# Altium schematic symbol library 6QChan_vitalcore_backpack.SCHLIB: 14 symbols
Pins are listed as number, name and electrical type; pins without a type are passive.

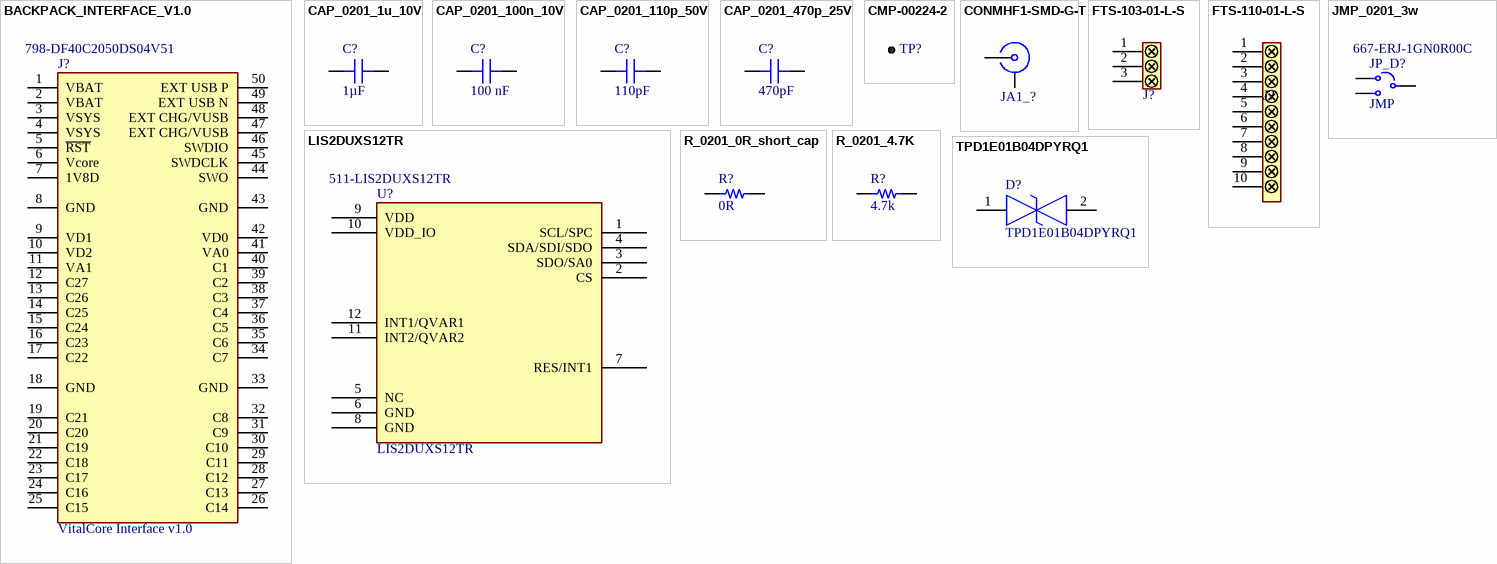
[diagram p0: symbols BACKPACK_INTERFACE_V1.0 to TPD1E01B04DPYRQ1]

## BACKPACK_INTERFACE_V1.0
designator J?, comment VitalCore Interface v1.0  Supplier Part Number 1: 798-DF40C2050DS04V51
Manufacturer: Hirose; Manufacturer Part Number: DF40C(2.0)-50DS-0.4V(51); Manufacturer Series: DF40; Connector Type: BOARD STACKING CONNECTOR; Body/Shell Style: RECEPTACLE; Contact Pattern: RECTANGULAR; Contact Resistance: 90mR; Dielectric Withstanding Voltage (AC): 100V; Durability: 30Cycles; Insulation Resistance: 50MR; Number Of Connectors: 1; Number Of PCB Rows: 2; Polarization Key: POLARIZED HOUSING; Rated Current (Signal): 300mA; Number of Contacts: 50; Mating Contact Pitch: 0.016inch; Mounting Option 1: LOCKING; PCB Contact Row Spacing: 2.6416mm; Reference Standard: UL; Reliability: COMMERCIAL; Supplier 1: Mouser; RoHS: Yes; Category: Connectors; Stock 1: 16932; Pricing 1: 1=1.44, 10=1.14, 50=1.14, 100=0.99, 1000=0.792, 10000=0.643 (USD); Mounting Technology: Board; Contact Material: Bronze; Contact Finish - Mating: AU; Insulation Color: Black; Insulation Material: Polymer; Min Operating Temperature: -35°C; Max Operating Temperature: 85°C; Contact Gender: Female; Mounting Style: STRAIGHT; Number of Rows Loaded: 2; PCB Contact Pattern: RECTANGULAR; Termination: SMD/SMT; Terminal Pitch: 4.064mm; RoHS Compliant: Yes; ComponentLink1URL: https://datasheet.ciiva.com:443/pdfs/VipMasterIC/IC/HIRO/HIRO-S-A0003089604/HIRO-S-A0007946763-1.pdf?src-supplier=IHS+Markit; ComponentLink1Description: https://datasheet.ciiva.com:443/pdfs/VipMasterIC/IC/HIRO/HIRO-S-A0003089604/HIRO-S-A0007946763-1.pdf?src-supplier=IHS+Markit; ComponentLink2URL: https://www.hirose.com/product/download/?distributor=digikey&amp;type=specSheet&amp;lang=en&amp;num=DF40C(2.0)-50DS-0.4V(51)&src-supplier=Digi-Key; ComponentLink2Description: https://www.hirose.com/product/download/?distributor=digikey&amp;type=specSheet&amp;lang=en&amp;num=DF40C(2.0)-50DS-0.4V(51)&src-supplier=Digi-Key; ComponentLink3URL: https://www.hirose.com/product/en/download_file/key_name/DF40C%282.0%29-50DS-0.4V%2851%29/category/Specification%20Sheet/doc_file_id/46910/?file_category_id=9&item_id=06844091051&is_series=&src-supplier=Digi-Key; ComponentLink3Description: https://www.hirose.com/product/en/download_file/key_name/DF40C%282.0%29-50DS-0.4V%2851%29/category/Specification%20Sheet/doc_file_id/46910/?file_category_id=9&item_id=06844091051&is_series=&src-supplier=Digi-Key; ComponentLink4URL: http://www.hirose.co.jp/cataloge_hp/e68440018.pdf?src-supplier=Mouser; ComponentLink4Description: http://www.hirose.co.jp/cataloge_hp/e68440018.pdf?src-supplier=Mouser
footprint BACKPACK_INTERFACE_V1.0_1.5mm
footprint BACKPACK_INTERFACE_V1.0_2mm
pins: 1 VBAT, 2 VBAT, 3 VSYS, 4 VSYS, 5 ~{RST}, 6 Vcore, 7 1V8D, 8 GND, 9 VD1, 10 VD2, 11 VA1, 12 C27, 13 C26, 14 C25, 15 C24, 16 C23, 17 C22, 18 GND, 19 C21, 20 C20, 21 C19, 22 C18, 23 C17, 24 C16, 25 C15, 26 C14, 27 C13, 28 C12, 29 C11, 30 C10, 31 C9, 32 C8, 33 GND, 34 C7, 35 C6, 36 C5, 37 C4, 38 C3, 39 C2, 40 C1, 41 VA0, 42 VD0, 43 GND, 44 SWO, 45 SWDCLK, 46 SWDIO, 47 EXT CHG/VUSB, 48 EXT CHG/VUSB, 49 EXT USB N, 50 EXT USB P

## CAP_0201_1u_10V
designator C?, comment 1µF
CAP CER 1UF 10V X6S; Manufacturer: Murata; Manufacturer Part Number: GRM033C81A105ME05D; Dielectric Material: Ceramic; Multilayer: Yes; Tolerance  (fill in as +-): 20%; Supplier 1: Mouser; RoHS: Yes; Category: Ceramic Capacitors; Stock 1: 212716; Pricing 1: 1=0.3, 10=0.147, 50=0.147, 100=0.095, 1000=0.079, 10000=0.066 (USD); Mounting Technology: Surface Mount; Pins: 2; Package Shape: Rectangular; Case/Package: 0201; Terminal Finish: Nickel; Min Operating Temperature: -55°C; Max Operating Temperature: 105°C; JESD-609 Code: e3; Value: 1uF; Capacitor Type: Ceramic; Packaging: Tape and Reel; Tolerance (fill in as +-): 20%; Rated DC Voltage (URdc): 10V; Temperature Characteristics Code: X6S; Termination: Wraparound; Reach SVHC Compliant: Yes; RoHS Compliant: Yes; ComponentLink1URL: https://psearch.en.murata.com:443/capacitor/product/GRM033C81A105ME05%23.pdf?src-supplier=IHS+Markit; ComponentLink1Description: https://psearch.en.murata.com:443/capacitor/product/GRM033C81A105ME05%23.pdf?src-supplier=IHS+Markit; ComponentLink2URL: http://search.murata.co.jp/Ceramy/image/img/A01X/G101/ENG/GRM033C81A105ME05-01.pdf?src-supplier=Digi-Key; ComponentLink2Description: http://search.murata.co.jp/Ceramy/image/img/A01X/G101/ENG/GRM033C81A105ME05-01.pdf?src-supplier=Digi-Key; ComponentLink3URL: https://datasheet.octopart.com/GRM033C81A105ME05D-Murata-datasheet-86813717.pdf?src-supplier=Future+Electronics; ComponentLink3Description: https://datasheet.octopart.com/GRM033C81A105ME05D-Murata-datasheet-86813717.pdf?src-supplier=Future+Electronics; ComponentLink4URL: https://datasheet.octopart.com/GRM033C81A105ME05D-Murata-datasheet-165579666.pdf?src-supplier=TME; ComponentLink4Description: https://datasheet.octopart.com/GRM033C81A105ME05D-Murata-datasheet-165579666.pdf?src-supplier=TME; Supplier Part Number 1: 81-GRM033C81A105ME5D
footprint CAP_0201
pins: 1, 2

## CAP_0201_100n_10V
designator C?, comment 100 nF
CAP CER 0.1UF 25V X5R 0201; Manufacturer: Murata; Manufacturer Part Number: GRM033R6YA104ME14D; Dielectric Material: Ceramic; Value: 100nF; Multilayer: Yes; Tolerance  (fill in as +-): 20%; Rated DC Voltage (URdc): 35V; Supplier 1: Mouser; RoHS: Yes; Category: Ceramic Capacitors; Stock 1: 286132; Pricing 1: 1=0.1, 10=0.013, 50=0.013, 100=0.008, 1000=0.006, 10000=0.005 (USD); Mounting Technology: Surface Mount; Pins: 2; Package Shape: Rectangular; Case/Package: 0201; Terminal Finish: Nickel; Min Operating Temperature: -55°C; Max Operating Temperature: 85°C; JESD-609 Code: e3; Capacitor Type: Ceramic; Package Style: SMTMeter; Packaging: Tape and Reel; Tolerance (fill in as +-): 20%; Temperature Characteristics Code: X5R; Termination: Wraparound; Length: 0.6mm; Width: 0.3mm; Height: 0.3mm; Reach SVHC Compliant: Yes; RoHS Compliant: Yes; ComponentLink1URL: https://psearch.en.murata.com:443/capacitor/product/GRM033R6YA104ME14%23.pdf?src-supplier=IHS+Markit; ComponentLink1Description: https://psearch.en.murata.com:443/capacitor/product/GRM033R6YA104ME14%23.pdf?src-supplier=IHS+Markit; ComponentLink2URL: http://www.mouser.com/ds/2/281/c02e-2905.pdf?src-supplier=Mouser; ComponentLink2Description: http://www.mouser.com/ds/2/281/c02e-2905.pdf?src-supplier=Mouser; ComponentLink3URL: http://search.murata.co.jp/Ceramy/image/img/A01X/G101/ENG/GRM033R6YA104ME14-01.pdf?src-supplier=Digi-Key; ComponentLink3Description: http://search.murata.co.jp/Ceramy/image/img/A01X/G101/ENG/GRM033R6YA104ME14-01.pdf?src-supplier=Digi-Key; ComponentLink4URL: https://datasheet.octopart.com/GRM033R6YA104ME14D-Murata-datasheet-82944622.pdf?src-supplier=Future+Electronics; ComponentLink4Description: https://datasheet.octopart.com/GRM033R6YA104ME14D-Murata-datasheet-82944622.pdf?src-supplier=Future+Electronics; Supplier Part Number 1: 81-GRM33R6YA104ME14D
footprint CAP_0201
pins: 1, 2

## CAP_0201_110p_50V
designator C?, comment 110pF
CAP CER 110PF 50V C0G 0201; Manufacturer: Murata; Manufacturer Part Number: GRM0335C1H111JA01D; Dielectric Material: Ceramic; Multilayer: Yes; Tolerance  (fill in as +-): 5%; Supplier 1: Mouser; RoHS: Yes; Category: Ceramic Capacitors; Stock 1: 26582; Pricing 1: 1=0.1, 10=0.006, 50=0.006, 100=0.004, 1000=0.003, 10000=0.002 (USD); Mounting Technology: Surface Mount; Pins: 2; Package Shape: Rectangular; Case/Package: 0201; Min Operating Temperature: -55°C; Max Operating Temperature: 125°C; Value: 110pF; Capacitor Type: Ceramic; Packaging: Tape and Reel; Tolerance (fill in as +-): 5%; Rated DC Voltage (URdc): 50V; Temperature Characteristics Code: C0G; Termination: Wraparound; Reach SVHC Compliant: Yes; RoHS Compliant: Yes; ComponentLink1URL: https://psearch.en.murata.com:443/capacitor/product/GRM0335C1H111JA01%23.pdf?src-supplier=IHS+Markit; ComponentLink1Description: https://psearch.en.murata.com:443/capacitor/product/GRM0335C1H111JA01%23.pdf?src-supplier=IHS+Markit; ComponentLink2URL: https://datasheet.ciiva.com/18699/grm0335c1h111ja01-01-18699253.pdf?src-supplier=Digi-Key; ComponentLink2Description: https://datasheet.ciiva.com/18699/grm0335c1h111ja01-01-18699253.pdf?src-supplier=Digi-Key; ComponentLink3URL: https://datasheet.ciiva.com/18699/partnumbering-e-01-18699254.pdf?src-supplier=Digi-Key; ComponentLink3Description: https://datasheet.ciiva.com/18699/partnumbering-e-01-18699254.pdf?src-supplier=Digi-Key; ComponentLink4URL: https://datasheet.ciiva.com/18699/partnumbering-e-01-18699255.pdf?src-supplier=Digi-Key; ComponentLink4Description: https://datasheet.ciiva.com/18699/partnumbering-e-01-18699255.pdf?src-supplier=Digi-Key; Supplier Part Number 1: 81-GRM0335C1H111JA1D
footprint CAP_0201
pins: 1, 2

## CAP_0201_470p_25V
designator C?, comment 470pF
CAP CER 470PF 25V C0G 0201; Manufacturer: Murata; Manufacturer Part Number: GRM0335C1E471JA01D; Dielectric Material: Ceramic; Multilayer: Yes; Tolerance  (fill in as +-): 5%; Supplier 1: Mouser; RoHS: Yes; Category: Ceramic Capacitors; Stock 1: 32770; Pricing 1: 1=0.1, 10=0.007, 50=0.007, 100=0.004, 1000=0.003, 10000=0.003 (USD); Mounting Technology: Surface Mount; Pins: 2; Package Shape: Rectangular; Case/Package: 0201; Terminal Finish: Tin; Min Operating Temperature: -55°C; Max Operating Temperature: 125°C; JESD-609 Code: e3; Value: 470pF; Capacitor Type: Ceramic; Packaging: Tape and Reel; Tolerance (fill in as +-): 5%; Rated DC Voltage (URdc): 25V; Temperature Characteristics Code: C0G; Termination: Wraparound; Reach SVHC Compliant: Yes; RoHS Compliant: Yes; ComponentLink1URL: https://psearch.en.murata.com:443/capacitor/product/GRM0335C1E471JA01%23.pdf?src-supplier=IHS+Markit; ComponentLink1Description: https://psearch.en.murata.com:443/capacitor/product/GRM0335C1E471JA01%23.pdf?src-supplier=IHS+Markit; ComponentLink2URL: http://search.murata.co.jp/Ceramy/image/img/A01X/G101/ENG/GRM0335C1E471JA01-01.pdf?src-supplier=Digi-Key; ComponentLink2Description: http://search.murata.co.jp/Ceramy/image/img/A01X/G101/ENG/GRM0335C1E471JA01-01.pdf?src-supplier=Digi-Key; ComponentLink3URL: https://search.murata.co.jp/Ceramy/image/img/A01X/G101/ENG/GRM0335C1E471JA01-01.pdf?src-supplier=Digi-Key; ComponentLink3Description: https://search.murata.co.jp/Ceramy/image/img/A01X/G101/ENG/GRM0335C1E471JA01-01.pdf?src-supplier=Digi-Key; ComponentLink4URL: https://datasheet.octopart.com/GRM0335C1E471JA01D-Murata-datasheet-165579666.pdf?src-supplier=TME; ComponentLink4Description: https://datasheet.octopart.com/GRM0335C1E471JA01D-Murata-datasheet-165579666.pdf?src-supplier=TME; Supplier Part Number 1: 81-GRM0335C1E471JA1D
footprint CAP_0201
pins: 1, 2

## CMP-00224-2
designator TP?, comment Test Pad  (value not drawn)  (no BOM)
0.6mm SMT Test Pad; Mounting Technology: SMT
footprint Pad-0.6mm (SMT Test Pad)
pins: 1 "Reserved. Connect to VDDIO."

## CONMHF1-SMD-G-T
designator JA1_?  (value not drawn)
Conn Umc Jack Str SMD; Manufacturer: TE Connectivity; Supplier 1: Mouser; Manufacturer Part Number: CONMHF1-SMD-G-T; RoHS: No; Supplier Part Number 1: 712-CONMHF1-SMD-G-T
footprint C-CONMHF1-SMD-G-T
pins: G, S

## FTS-103-01-L-S
designator J?  (value not drawn)
Pinheader 3 pin, 1.27mm; Manufacturer: Samtec; Manufacturer Series: FTS; Connector Type: BOARD CONNECTOR; Option: General Purpose; Additional Feature: Low Profile; Filter Feature: No; Number of Rows Loaded: 1; Number of Contacts: 3; Supplier 1: Mouser; Manufacturer Part Number: FTS-103-01-L-S; RoHS: Yes; Category: Connectors; Stock 1: 1110; Pricing 1: 1=1.18, 10=1.18, 50=1.18, 100=0.887, 1000=0.65, 10000=0.481 (USD); Mounting Technology: Board; Contact Material: Bronze; Contact Finish - Mating: GOLD (10) OVER NICKEL (50); Contact Finish - Termination: Matte Tin (Sn) - with Nickel (Ni) barrier; JESD-609 Code: e3; Contact Gender: Male; Mixed Contacts: No; Mounting Style: STRAIGHT; Termination: Solder; Terminal Pitch: 1.27mm; Flammability Rating: UL94 V-0; DIN Conformance: No; IEC Conformance: No; MIL Conformance: No; Reach SVHC Compliant: Yes; RoHS Compliant: Yes; ComponentLink1URL: https://datasheet.ciiva.com:443/pdfs/VipMasterIC/IC/SAMI/SAMI-S-A0001504673/SAMI-S-A0001504673-1.pdf?src-supplier=IHS+Markit; ComponentLink1Description: https://datasheet.ciiva.com:443/pdfs/VipMasterIC/IC/SAMI/SAMI-S-A0001504673/SAMI-S-A0001504673-1.pdf?src-supplier=IHS+Markit; ComponentLink2URL: http://suddendocs.samtec.com/prints/fts-1xx-xx-x-sx-mkt.pdf?src-supplier=Digi-Key; ComponentLink2Description: http://suddendocs.samtec.com/prints/fts-1xx-xx-x-sx-mkt.pdf?src-supplier=Digi-Key; ComponentLink3URL: http://suddendocs.samtec.com/prints/fts-1xx-xx-xx-xx-xx-mkt.pdf?src-supplier=Digi-Key; ComponentLink3Description: http://suddendocs.samtec.com/prints/fts-1xx-xx-xx-xx-xx-mkt.pdf?src-supplier=Digi-Key; ComponentLink4URL: ftp://ftp.samtec.com/webfiles/PDF/FTS.PDF?src-supplier=Avnet; ComponentLink4Description: ftp://ftp.samtec.com/webfiles/PDF/FTS.PDF?src-supplier=Avnet; Supplier Part Number 1: 200-FTS10301LS
footprint SAMTEC-FTS-103-01-X-S
pins: 1, 2, 3

## FTS-110-01-L-S
designator J?  (value not drawn)
Pinheader 10 pin, 1.27mm; Manufacturer: Samtec; Manufacturer Series: FTS; Connector Type: BOARD CONNECTOR; Option: General Purpose; Additional Feature: Low Profile; Filter Feature: No; Number of Rows Loaded: 1; Number of Contacts: 10; Supplier 1: Mouser; Manufacturer Part Number: FTS-110-01-L-S; RoHS: Yes; Category: Connectors; Stock 1: 83; Pricing 1: 1=2.85, 10=2.62, 50=2.62, 100=2.28, 1000=1.66, 10000=1.48 (USD); Mounting Technology: Board; Contact Material: Bronze; Contact Finish - Mating: GOLD (10) OVER NICKEL (50); Contact Finish - Termination: Matte Tin (Sn) - with Nickel (Ni) barrier; JESD-609 Code: e3; Contact Gender: Male; Mixed Contacts: No; Mounting Style: STRAIGHT; Termination: Solder; Terminal Pitch: 1.27mm; Flammability Rating: UL94 V-0; DIN Conformance: No; IEC Conformance: No; MIL Conformance: No; Reach SVHC Compliant: Yes; RoHS Compliant: Yes; ComponentLink1URL: https://datasheet.ciiva.com:443/pdfs/VipMasterIC/IC/SAMI/SAMI-S-A0001504673/SAMI-S-A0001504673-1.pdf?src-supplier=IHS+Markit; ComponentLink1Description: https://datasheet.ciiva.com:443/pdfs/VipMasterIC/IC/SAMI/SAMI-S-A0001504673/SAMI-S-A0001504673-1.pdf?src-supplier=IHS+Markit; ComponentLink2URL: http://www.samtec.com/documents/webfiles/pdf/FTS.pdf?src-supplier=Avnet; ComponentLink2Description: http://www.samtec.com/documents/webfiles/pdf/FTS.pdf?src-supplier=Avnet; ComponentLink3URL: https://datasheet.octopart.com/FTS-110-01-L-S-Samtec-datasheet-151470456.pdf?src-supplier=Sager+Electronics; ComponentLink3Description: https://datasheet.octopart.com/FTS-110-01-L-S-Samtec-datasheet-151470456.pdf?src-supplier=Sager+Electronics; ComponentLink4URL: https://datasheet.octopart.com/FTS-110-01-L-S-Samtec-datasheet-118493358.pdf?src-supplier=Electro+Sonic; ComponentLink4Description: https://datasheet.octopart.com/FTS-110-01-L-S-Samtec-datasheet-118493358.pdf?src-supplier=Electro+Sonic; ComponentLink5URL: https://datasheet.octopart.com/FTS-110-01-L-S-Samtec-datasheet-116535195.pdf?src-supplier=Toby+Electronics; ComponentLink5Description: https://datasheet.octopart.com/FTS-110-01-L-S-Samtec-datasheet-116535195.pdf?src-supplier=Toby+Electronics; Supplier Part Number 1: 200-FTS11001LS
footprint SAMTEC-FTS-110-01-L-S
pins: 1, 2, 3, 4, 5, 6, 7, 8, 9, 10

## JMP_0201_3w
designator JP_D?, comment JMP  Supplier Part Number 1: 667-ERJ-1GN0R00C
JMP 0201 3W; Manufacturer: Panasonic; Manufacturer Part Number: ERJ-1GN0R00C; Power: 50mW; Rated Temperature: 70°C; Value: 0R; Package Height: 0.23mm; Package Length: 0.6mm; Package Width: 0.3mm; Reference Standard: AEC-Q200; Supplier 1: Mouser; RoHS: Yes; Category: Chip SMD Resistors; Stock 1: 2803988; Pricing 1: 1=0.1, 10=0.016, 50=0.016, 100=0.007, 1000=0.007, 10000=0.005 (USD); Mounting Technology: Surface Mount; Pins: 2; Package Shape: Rectangular; Case/Package: 0201; Terminal Finish: Nickel; Min Operating Temperature: -55°C; Max Operating Temperature: 125°C; JESD-609 Code: e3; Resistor Type: FIXED RESISTOR; Construction: Rectangular; Package Style: SMTMeter; Packaging: Tape and Reel; Technology: METAL GLAZE/THICK FILM; Termination: Wraparound; Reach SVHC Compliant: Yes; RoHS Compliant: Yes; ComponentLink1URL: https://datasheet.ciiva.com:443/pdfs/VipMasterIC/IC/PANA/PANA-S-A0009459603/PANA-S-A0009459603-1.pdf?src-supplier=IHS+Markit; ComponentLink1Description: https://datasheet.ciiva.com:443/pdfs/VipMasterIC/IC/PANA/PANA-S-A0009459603/PANA-S-A0009459603-1.pdf?src-supplier=IHS+Markit; ComponentLink2URL: https://datasheet.ciiva.com/22730/1678796-22730749.pdf?src-supplier=Element14; ComponentLink2Description: https://datasheet.ciiva.com/22730/1678796-22730749.pdf?src-supplier=Element14
footprint JMP_0201_3way (Jumper 3 pins 0201x2)
pins: 1, 2, 3

## LIS2DUXS12TR
designator U?  Supplier Part Number 1: 511-LIS2DUXS12TR
IC IMU QVAR; Manufacturer: STMicroelectronics; Supplier 1: Mouser; Manufacturer Part Number: LIS2DUXS12TR; RoHS: No; Category: Uncategorized; Stock 1: 1438; Pricing 1: 1=3.99, 10=2.53, 50=2.53, 100=2.45, 1000=1.93, 10000=1.69 (USD)
footprint QFN_DUXS12_STM-M
pins: 1 SCL/SPC, 2 CS, 3 SDO/SA0, 4 SDA/SDI/SDO, 5 NC, 6 GND (power), 7 RES/INT1, 8 GND (power), 9 VDD (power), 10 VDD_IO (power), 11 INT2/QVAR2, 12 INT1/QVAR1

## R_0201_0R_short_cap
designator R?, comment 0R
JMP 0201 3W; Manufacturer: Panasonic; Manufacturer Part Number: ERJ-1GN0R00C; Power: 50mW; Rated Temperature: 70°C; Package Height: 0.23mm; Package Length: 0.6mm; Package Width: 0.3mm; Reference Standard: AEC-Q200; Supplier 1: Mouser; RoHS: Yes; Category: Chip SMD Resistors; Stock 1: 2807997; Pricing 1: 1=0.1, 10=0.016, 50=0.016, 100=0.007, 1000=0.007, 10000=0.005 (USD); Mounting Technology: Surface Mount; Pins: 2; Package Shape: Rectangular; Case/Package: 0201; Terminal Finish: Nickel; Min Operating Temperature: -55°C; Max Operating Temperature: 125°C; JESD-609 Code: e3; Resistor Type: FIXED RESISTOR; Construction: Rectangular; Package Style: SMTMeter; Packaging: Tape and Reel; Value: 0R; Technology: METAL GLAZE/THICK FILM; Termination: Wraparound; Reach SVHC Compliant: Yes; RoHS Compliant: Yes; ComponentLink1URL: https://datasheet.ciiva.com:443/pdfs/VipMasterIC/IC/PANA/PANA-S-A0009459603/PANA-S-A0009459603-1.pdf?src-supplier=IHS+Markit; ComponentLink1Description: https://datasheet.ciiva.com:443/pdfs/VipMasterIC/IC/PANA/PANA-S-A0009459603/PANA-S-A0009459603-1.pdf?src-supplier=IHS+Markit; ComponentLink2URL: https://datasheet.ciiva.com/22730/1678796-22730749.pdf?src-supplier=Element14; ComponentLink2Description: https://datasheet.ciiva.com/22730/1678796-22730749.pdf?src-supplier=Element14; Supplier Part Number 1: 667-ERJ-1GN0R00C
footprint RES_0201 (Chip Resistor, 2-Leads, Body 0.60x0.30mm, IPC Medium Density)
pins: 1, 2

## R_0201_4.7K
designator R?, comment 4.7k
R 4.7K 1% 50mW 0201; Manufacturer: Panasonic; Manufacturer Part Number: ERJ-1GNF4701C; Rated Temperature: 70°C; Temperature Coefficient: 200ppm/°C; Working Voltage: 25V; Package Height: 0.23mm; Package Length: 0.6mm; Package Width: 0.3mm; Reference Standard: AEC-Q200; Supplier 1: Mouser; RoHS: Yes; Category: Chip SMD Resistors; Stock 1: 339994; Pricing 1: 1=0.1, 10=0.023, 50=0.023, 100=0.014, 1000=0.01, 10000=0.007 (USD); Mounting Technology: Surface Mount; Pins: 2; Package Shape: Rectangular; Case/Package: 0201; Terminal Finish: Nickel; Min Operating Temperature: -55°C; Max Operating Temperature: 125°C; Tolerance: 1%; JESD-609 Code: e3; Resistor Type: FIXED RESISTOR; Construction: Rectangular; Package Style: SMTMeter; Packaging: Tape and Reel; Power: 50mW; Value: 4.7k; Technology: METAL GLAZE/THICK FILM; Termination: Wraparound; Reach SVHC Compliant: Yes; RoHS Compliant: Yes; ComponentLink1URL: https://datasheet.ciiva.com:443/pdfs/VipMasterIC/IC/PANA/PANA-S-A0009889626/PANA-S-A0009889626-1.pdf?src-supplier=IHS+Markit; ComponentLink1Description: https://datasheet.ciiva.com:443/pdfs/VipMasterIC/IC/PANA/PANA-S-A0009889626/PANA-S-A0009889626-1.pdf?src-supplier=IHS+Markit; ComponentLink2URL: https://datasheet.ciiva.com/30079/erj1gn-30079779.pdf?src-supplier=Onlinecomponents.com; ComponentLink2Description: https://datasheet.ciiva.com/30079/erj1gn-30079779.pdf?src-supplier=Onlinecomponents.com; Supplier Part Number 1: 667-ERJ-1GNF4701C
footprint RES_0201 (Chip Resistor, 2-Leads, Body 0.60x0.30mm, IPC Medium Density)
pins: 1, 2

## TPD1E01B04DPYRQ1
designator D?
TVS Diode (Bi-directional); Manufacturer: Texas Instruments; Supplier 1: Mouser; Manufacturer Part Number: TPD1E01B04DPYRQ1; RoHS: No; Category: Integrated Circuits (ICs); Stock 1: 7769; Pricing 1: 1=0.48, 10=0.358, 50=0.358, 100=0.229, 1000=0.143, 10000=0.114 (USD); Supplier Part Number 1: 595-TPD1E01B04DPYRQ1
footprint TPD1E01B04DPYRQ1
pins: 1, 2